# Altium footprint library pcb_GasSensor.PcbLib: 46 footprints (part 3 of 3)
Each footprint in its own frame and in the unit in brackets; x right, y up, seen from the top. Pads: shape width x height; smd on the part's side, far side on the other; paste and mask are expansions set on the pad; w line width, h text height; cw(c..) or ccw(c..) is an arc to the next point about the centre after c.
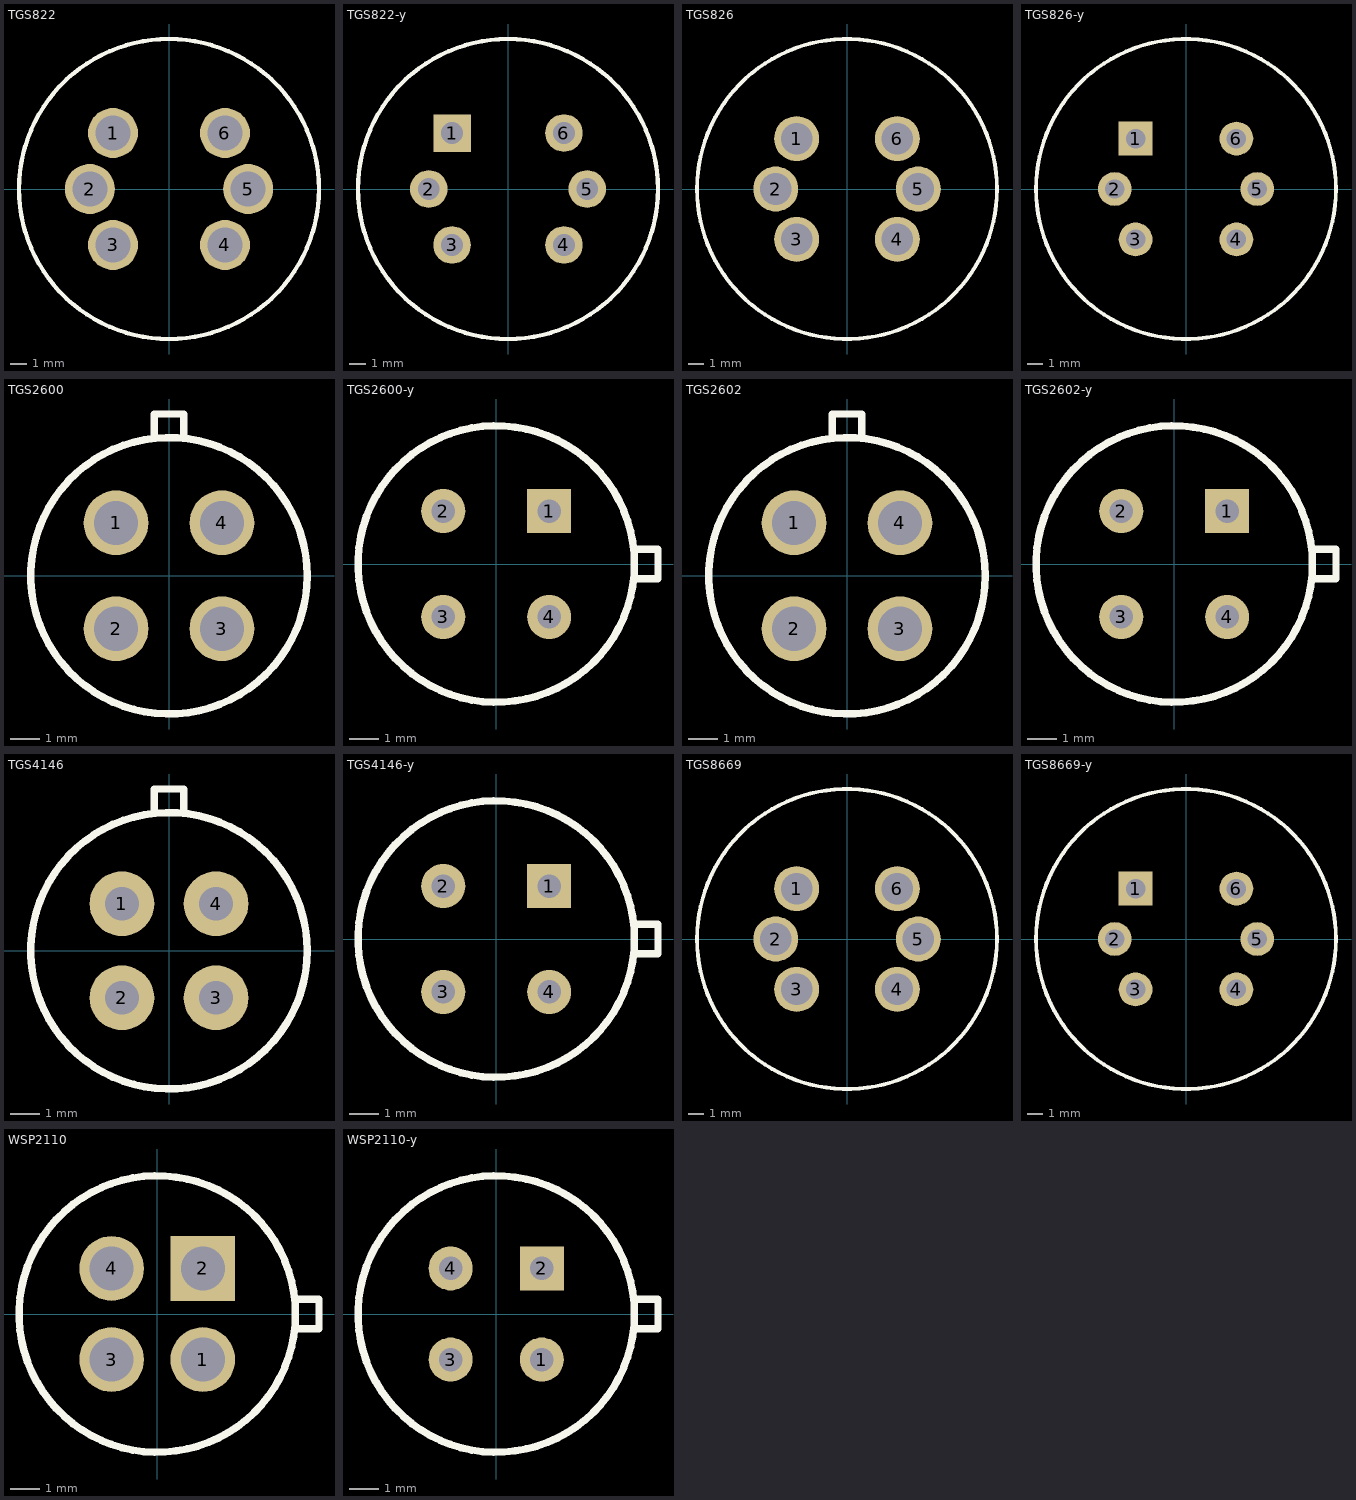
[diagram p2: the footprints below, top view; thin cyan lines are the x and y axes]

## TGS822 [mm]
height 10
pads (6):
  round 3 hole 2.1: 1(-3.359,3.359) 2(-4.75,0) 3(-3.359,-3.359) 4(3.359,-3.359) 5(4.75,0) 6(3.359,3.359)
Top Overlay:
  circle w0.254: c0,0 r9
3D body "mq-7.stp": height 11.2, standoff -5.3, extent -8.4,-8.388 8.4,8.388

## TGS822-y [mm]
height 10
pads (6):
  rect 2.25x2.25 hole 1.3: 1(-3.359,3.359)
  round 2.25 hole 1.3: 2(-4.75,0) 3(-3.359,-3.359) 4(3.359,-3.359) 5(4.75,0) 6(3.359,3.359)
Top Overlay:
  circle w0.254: c0,0 r9
3D body "mq-7.stp": height 11.2, standoff -5.3, extent -8.4,-8.388 8.4,8.388

## TGS826 [mm]
pads (6):
  round 3 hole 2.1: 1(-3.359,3.359) 2(-4.75,0) 3(-3.359,-3.359) 4(3.359,-3.359) 5(4.75,0) 6(3.359,3.359)
Top Overlay:
  circle w0.254: c0,0 r10
3D body "MQ Gas Sensor.step": height 17, standoff -5, extent -9.815,-9.797 9.779,9.797

## TGS826-y [mm]
pads (6):
  rect 2.25x2.25 hole 1.3: 1(-3.359,3.359)
  round 2.25 hole 1.3: 2(-4.75,0) 3(-3.359,-3.359) 4(3.359,-3.359) 5(4.75,0) 6(3.359,3.359)
Top Overlay:
  circle w0.254: c0,0 r10
3D body "MQ Gas Sensor.step": height 15, standoff -7, extent -9.815,-9.797 9.779,9.797

## TGS2600 [mm]
height 7.8
pads (4):
  round 2.2 hole 1.5: 1(-1.8,1.8) 2(-1.8,-1.8) 3(1.8,-1.8) 4(1.8,1.8)
Top Overlay:
  circle w0.254: c0,0 r4.7
  lines w0.254: -0.5,4.7 -0.5,5.5 0.5,5.5 0.5,4.7
3D body "TGS2600--3DModel-STEP-56544.STEP": height 8.3, standoff -11, extent -4.6,-4.6 4.6,5

## TGS2600-y [mm]
height 7.8
pads (4):
  rect 1.5x1.5 hole 0.8: 1(1.8,1.8)
  round 1.5 hole 0.8: 2(-1.8,1.8) 3(-1.8,-1.8) 4(1.8,-1.8)
Top Overlay:
  circle w0.254: c0,0 r4.7
  lines w0.254: 4.7,-0.5 5.5,-0.5 5.5,0.5 4.7,0.5
3D body "TGS2600--3DModel-STEP-56544.STEP": height 16.3, standoff -3, extent -4.6,-4.6 5,4.6

## TGS2602 [mm]
height 7.8
pads (4):
  round 2.2 hole 1.5: 1(-1.8,1.8) 2(-1.8,-1.8) 3(1.8,-1.8) 4(1.8,1.8)
Top Overlay:
  circle w0.254: c0,0 r4.7
  lines w0.254: -0.5,4.7 -0.5,5.5 0.5,5.5 0.5,4.7
3D body "TGS2600--3DModel-STEP-56544.STEP": height 16.3, standoff -3, extent -4.6,-4.6 4.6,5

## TGS2602-y [mm]
height 7.8
pads (4):
  rect 1.5x1.5 hole 0.8: 1(1.8,1.8)
  round 1.5 hole 0.8: 2(-1.8,1.8) 3(-1.8,-1.8) 4(1.8,-1.8)
Top Overlay:
  circle w0.254: c0,0 r4.7
  lines w0.254: 4.7,-0.5 5.5,-0.5 5.5,0.5 4.7,0.5
3D body "TGS2600--3DModel-STEP-56544.STEP": height 16.3, standoff -3, extent -4.6,-4.6 5,4.6

## TGS4146 [mm]
height 13
pads (4):
  round 2.2 hole 1.15: 1(-1.6,1.6) 2(-1.6,-1.6) 3(1.6,-1.6) 4(1.6,1.6)
Top Overlay:
  circle w0.254: c0,0 r4.7
  lines w0.254: -0.5,4.7 -0.5,5.5 0.5,5.5 0.5,4.7
3D body "TGS2600--3DModel-STEP-56544.STEP": height 16.3, standoff -3, extent -4.6,-4.6 4.6,5

## TGS4146-y [mm]
height 13
pads (4):
  rect 1.5x1.5 hole 0.8: 1(1.8,1.8)
  round 1.5 hole 0.8: 2(-1.8,1.8) 3(-1.8,-1.8) 4(1.8,-1.8)
Top Overlay:
  circle w0.254: c0,0 r4.7
  lines w0.254: 4.7,-0.5 5.5,-0.5 5.5,0.5 4.7,0.5
3D body "TGS2600--3DModel-STEP-56544.STEP": height 16.3, standoff -3, extent -4.6,-4.6 5,4.6

## TGS8669 [mm]
height 15.5
pads (6):
  round 3 hole 2.1: 1(-3.359,3.359) 2(-4.75,0) 3(-3.359,-3.359) 4(3.359,-3.359) 5(4.75,0) 6(3.359,3.359)
Top Overlay:
  circle w0.254: c0,0 r10
3D body "MQ Gas Sensor.step": height 15, standoff -7, extent -9.815,-9.797 9.779,9.797

## TGS8669-y [mm]
height 15.5
pads (6):
  rect 2.25x2.25 hole 1.3: 1(-3.359,3.359)
  round 2.25 hole 1.3: 2(-4.75,0) 3(-3.359,-3.359) 4(3.359,-3.359) 5(4.75,0) 6(3.359,3.359)
Top Overlay:
  circle w0.254: c0,0 r10
3D body "MQ Gas Sensor.step": height 15, standoff -7, extent -9.815,-9.797 9.779,9.797

## WSP2110 [mm]
height 7
pads (4):
  round 2.2 hole 1.5: 1(1.55,-1.55) 3(-1.55,-1.55) 4(-1.55,1.55)
  rect 2.2x2.2 hole 1.5: 2(1.55,1.55)
Top Overlay:
  circle w0.254: c0,0 r4.7
  lines w0.254: 4.7,-0.5 5.5,-0.5 5.5,0.5 4.7,0.5
3D body "TGS2600--3DModel-STEP-56544.STEP": height 16.3, standoff -3, extent -4.6,-4.6 5,4.6

## WSP2110-y [mm]
height 7
pads (4):
  round 1.5 hole 0.8: 1(1.55,-1.55) 3(-1.55,-1.55) 4(-1.55,1.55)
  rect 1.5x1.5 hole 0.8: 2(1.55,1.55)
Top Overlay:
  circle w0.254: c0,0 r4.7
  lines w0.254: 4.7,-0.5 5.5,-0.5 5.5,0.5 4.7,0.5
3D body "TGS2600--3DModel-STEP-56544.STEP": height 16.3, standoff -3, extent -4.6,-4.6 5,4.6